# Altium footprint library tinyCurrent_Version1.PcbLib: 14 footprints
Each footprint in its own frame and in the unit in brackets; x right, y up, seen from the top. Pads: shape width x height; smd on the part's side, far side on the other; paste and mask are expansions set on the pad; w line width, h text height; cw(c..) or ccw(c..) is an arc to the next point about the centre after c.
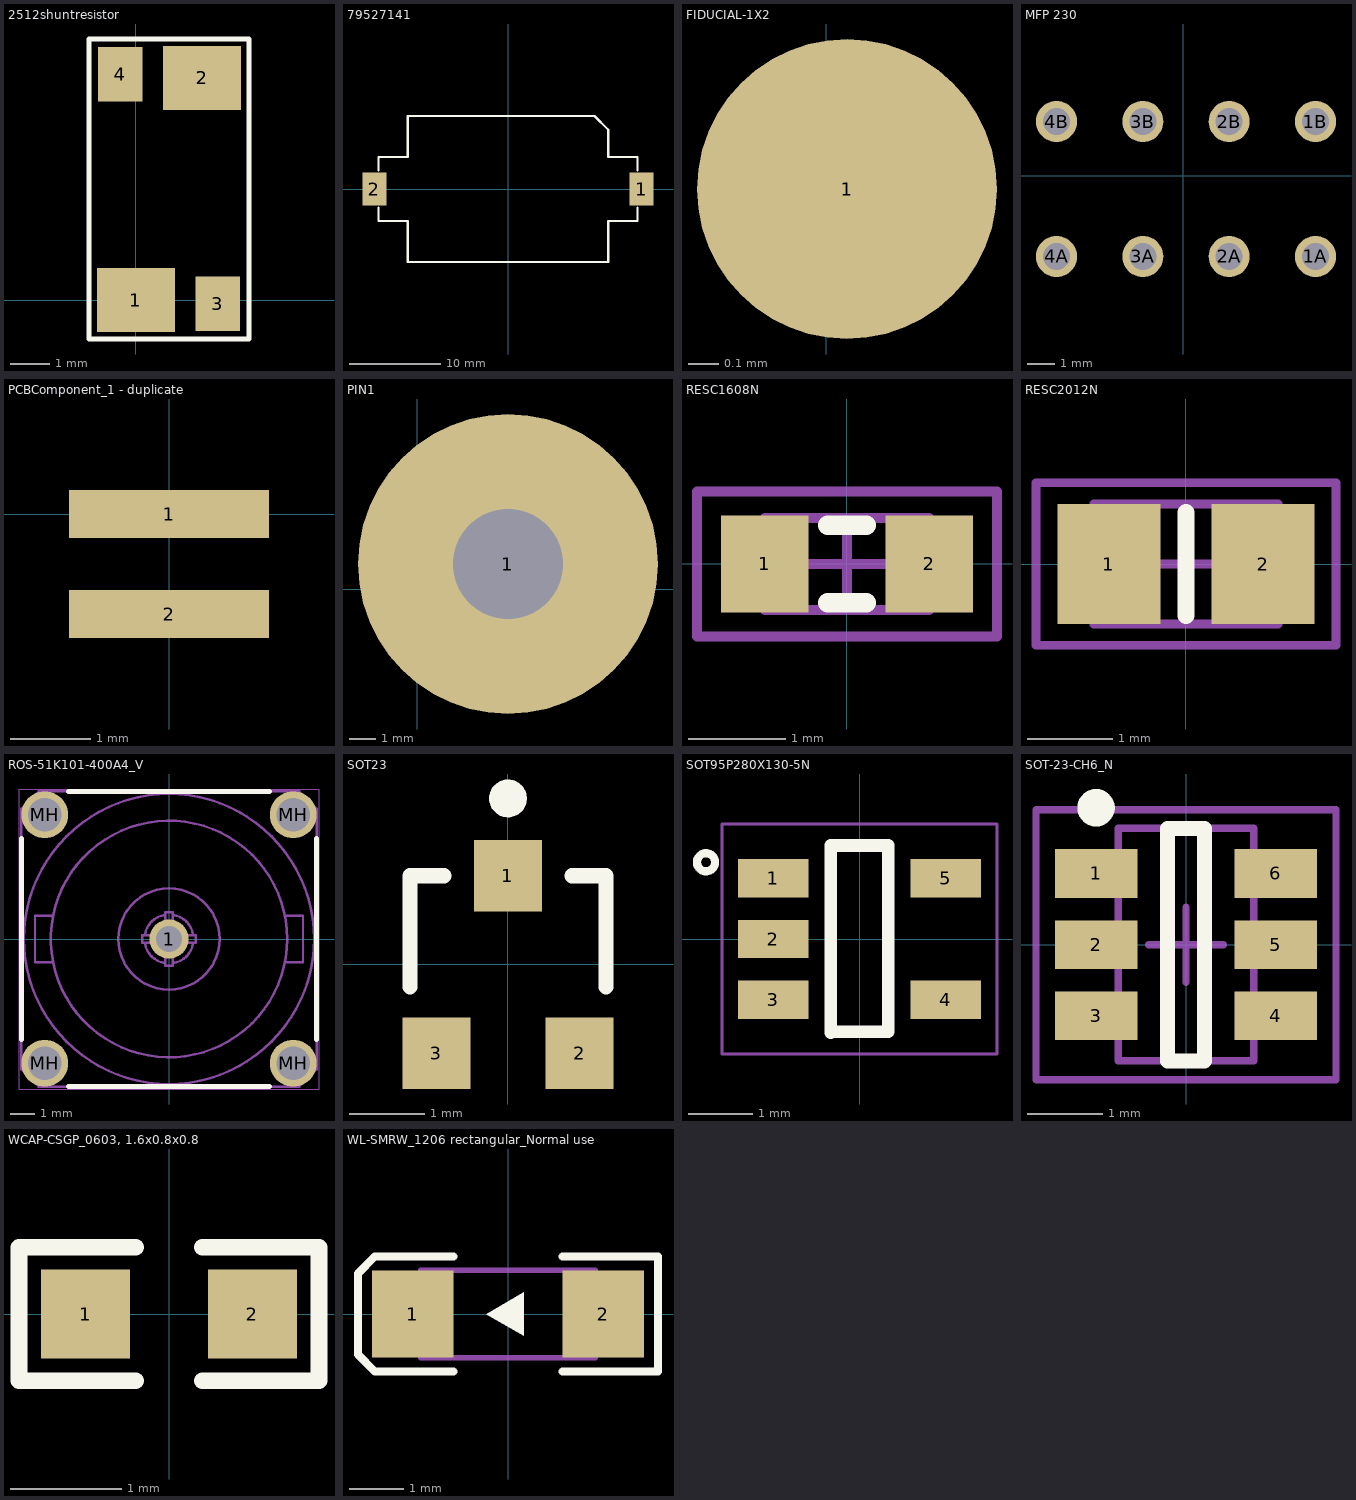
[diagram p0: the footprints below, top view; thin cyan lines are the x and y axes]

## 2512shuntresistor [mm]
pads (4):
  rect 2x1.65 smd mask+0.051: 1(0,0) 2(1.7,5.7)
  rect 1.15x1.4 smd mask+0.051: 3(2.1,-0.1) 4(-0.4,5.8)
Top Overlay:
  lines w0.127: -1.2,-1 2.9,-1 2.9,6.7 -1.2,6.7 -1.2,-1

## 79527141 [mm]
pads (2):
  rect 2.6x3.6 smd: 1(14.65,0) 2(-14.65,0)
Top Overlay:
  lines w0.254: -14.2,-2.05 -14.2,-3.5 -11,-3.5 -11,-8 11,-8 11,-3.5 14.2,-3.5 14.2,-2.05 ; -14.2,2.05 -14.2,3.5 -11,3.5 -11,8 9.5,8 11,6.5 11,3.5 14.2,3.5 14.2,2.05
3D body "79527141.stp": height 5.66, standoff 0.01, extent -15.95,-8 15.95,8

## FIDUCIAL-1X2 [mm]
pads (1):
  rrect100% 1x1 smd paste-0.5: 1(0.07,1.7)

## MFP 230 [mm]
pads (8):
  round 1.524 hole 1: 1A(4.9,-3) 1B(4.9,2) 2A(1.7,-3) 2B(1.7,2) 3A(-1.5,-3) 3B(-1.5,2) 4A(-4.7,-3) 4B(-4.7,2)

## PCBComponent_1 - duplicate [mm]
pads (2):
  rect 2.5x0.6 smd: 1(0,0) 2(0,-1.25)

## PIN1 [mm]
pads (1):
  round 11.5 / inner round 10 / far side round 11 hole 4.2: 1(3.47,0.97)
3D body: height 0, standoff 0, extent -1.701,-5.801 9.901,5.801
3D body: height 0, standoff 0, extent -1.701,-5.801 9.901,5.801

## RESC1608N [mm]
pads (2):
  rect 0.9x1 smd: 1(-0.85,0) 2(0.85,0)
Top Overlay:
  lines w0.2: -0.2,-0.4 0.2,-0.4 ; -0.2,0.4 0.2,0.4
Mechanical 13:
  lines w0.1: -0.85,-0.475 -0.85,0.475 0.85,0.475 0.85,-0.475 -0.85,-0.475
Mechanical 15:
  lines w0.1: -0.475,0 0.475,0 ; 0,-0.475 0,0.475 ; -1.55,-0.75 -1.55,0.75 1.55,0.75 1.55,-0.75 -1.55,-0.75
3D body: height 0.6, standoff 0, extent -0.85,-0.475 0.85,0.475

## RESC2012N [mm]
pads (2):
  rect 1.2x1.4 smd: 1(-0.9,0) 2(0.9,0)
Top Overlay:
  lines w0.2: 0,-0.6 0,0.6
Mechanical 13:
  lines w0.1: -1.075,-0.7 -1.075,0.7 1.075,0.7 1.075,-0.7 -1.075,-0.7
Mechanical 15:
  lines w0.1: -0.5,0 0.5,0 ; 0,-0.5 0,0.5 ; -1.75,-0.95 -1.75,0.95 1.75,0.95 1.75,-0.95 -1.75,-0.95
3D body: height 0.65, standoff 0, extent -1.075,-0.7 1.075,0.7

## ROS-51K101-400A4_V [mm]
pads (5):
  round 1.6 hole 1.05: 1(0,0)
  round 1.9 hole 1.35: MH(-5.05,-5.05) MH(-5.05,5.05) MH(5.05,-5.05) MH(5.05,5.05)
Top Overlay:
  lines w0.2: -6,-4.09 -6,4.09 ; -4.09,-6 4.09,-6 ; -4.09,6 4.09,6 ; 6,-4.09 6,4.09
Mechanical 13:
  circle w0.1: c5.05,-5.05 r0.3
  circle w0.1: c-5.05,-5.05 r0.3
  circle w0.1: c-5.05,5.05 r0.3
  circle w0.1: c5.05,5.05 r0.3
  circle w0.1: c0,0 r0.45
  circle w0.1: c-5.05,5.05 r0.6
  circle w0.1: c-5.05,-5.05 r0.6
  circle w0.1: c5.05,-5.05 r0.6
  circle w0.1: c5.05,5.05 r0.6
  circle w0.1: c0,0 r4.81
  circle w0.1: c0,0 r2.06
  circle w0.1: c0,0 r5.9
  lines w0.1: -4.699,-0.95 -5.45,-0.95 -5.45,0.952 -4.699,0.952 ; -0.989,-0.148 ccw(c0,0) -0.148,-0.989 ; -0.989,0.148 cw(c0,0) -0.148,0.989 ; -0.685,-0.147 ccw(c0,0) -0.15,-0.684 ; -0.684,0.15 cw(c0,0) -0.147,0.685 ; -0.684,-0.15 -1.09,-0.15 -1.09,0.15 -0.684,0.15 ; -0.15,-0.684 -0.15,-1.09 0.15,-1.09 0.15,-0.684 ; -0.15,0.684 -0.15,1.09 0.15,1.09 0.15,0.684 ; 0.147,-0.685 ccw(c0,0) 0.684,-0.15 ; 0.148,-0.989 ccw(c0,0) 0.989,-0.148 ; 0.148,0.989 cw(c0,0) 0.989,0.148 ; 0.15,0.684 cw(c0,0) 0.685,0.147 ; 0.684,-0.15 1.09,-0.15 1.09,0.15 0.684,0.15 ; 4.699,-0.95 5.45,-0.95 5.45,0.952 4.699,0.952 ; -6,-5.294 -5.294,-6 5.294,-6 6,-5.294 6,5.294 5.294,6 -5.294,6 -6,5.294 -6,-5.294
Mechanical 15:
  lines w0.05: -6.1,-6.1 6.1,-6.1 6.1,6.1 -6.1,6.1 -6.1,-6.1
  lines w0.1: -0.5,0 0.5,0 ; 0,-0.5 0,0.5
3D body "51k101-400a4.stp": height 15, standoff -3.97, extent -6,-6 6,6

## SOT23 [mm]
pads (3):
  rect 0.9x0.95 smd: 1(0,1.175) 2(0.95,-1.175) 3(-0.95,-1.175)
Top Overlay:
  circle w0.25: c0,2.2 r0.125
  lines w0.2: -1.3,-0.3 -1.3,1.175 -0.85,1.175 ; 0.85,1.175 1.3,1.175 1.3,-0.3

## SOT95P280X130-5N [mm]
pads (5):
  rect 1.1x0.6 smd paste-25.4 mask-25.4: 1(-1.35,0.95) 2(-1.35,0) 3(-1.35,-0.95) 4(1.35,-0.95) 5(1.35,0.95)
Top Overlay:
  circle w0.127: c-2.4,1.2 r0.141
  lines w0.2: -0.45,-1.46 -0.45,1.46 0.45,1.46 ; -0.45,-1.45 0.45,-1.45 0.45,1.45
Top Paste:
  region: -1.9,0.65 -0.8,0.65 -0.8,1.25 -1.9,1.25
  region: -1.9,-0.3 -0.8,-0.3 -0.8,0.3 -1.9,0.3
  region: -1.9,-1.25 -0.8,-1.25 -0.8,-0.65 -1.9,-0.65
  region: 1.9,-0.65 0.8,-0.65 0.8,-1.25 1.9,-1.25
  region: 1.9,1.25 0.8,1.25 0.8,0.65 1.9,0.65
Top Solder:
  region: -2,0.55 -0.7,0.55 -0.7,1.35 -2,1.35
  region: -2,-0.4 -0.7,-0.4 -0.7,0.4 -2,0.4
  region: -2,-1.35 -0.7,-1.35 -0.7,-0.55 -2,-0.55
  region: 2,-0.55 0.7,-0.55 0.7,-1.35 2,-1.35
  region: 2,1.35 0.7,1.35 0.7,0.55 2,0.55
Mechanical 1:
  lines w0.05: -2.15,-1.8 2.15,-1.8 2.15,1.8 -2.15,1.8 -2.15,-1.8
3D body "SOT23_5.stp": height 0.92, standoff 0.01, extent -1.524,-1.5 1.681,1.5

## SOT-23-CH6_N [mm]
pads (6):
  rect 1.1x0.65 smd: 1(-1.2,0.95) 2(-1.2,0) 3(-1.2,-0.95) 4(1.2,-0.95) 5(1.2,0) 6(1.2,0.95)
Top Overlay:
  circle w0.25: c-1.2,1.825 r0.125
  lines w0.2: -0.25,-1.55 0.25,-1.55 0.25,1.55 -0.25,1.55 -0.25,-1.55
Mechanical 13:
  lines w0.1: -0.9,-1.55 -0.9,1.55 0.9,1.55 0.9,-1.55 -0.9,-1.55
Mechanical 15:
  lines w0.1: -0.5,0 0.5,0 ; 0,-0.5 0,0.5 ; -2,-1.8 -2,1.8 2,1.8 2,-1.8 -2,-1.8
3D body: height 1.45, standoff 0, extent -0.9,-1.55 0.9,1.55

## WCAP-CSGP_0603, 1.6x0.8x0.8 [mm]
pads (2):
  rect 0.8x0.8 smd: 1(-0.75,0) 2(0.75,0)
Top Overlay:
  lines w0.15: -0.3,-0.6 -1.35,-0.6 -1.35,0.6 -0.3,0.6 ; 0.3,-0.6 1.35,-0.6 1.35,0.6 0.3,0.6
3D body "1.6x0.8x0.8x0.4.stp": height 0.8, standoff 0, extent -0.8,-0.4 0.8,0.4

## WL-SMRW_1206 rectangular_Normal use [mm]
pads (2):
  rect 1.5x1.6 smd: 1(-1.75,0) 2(1.75,0)
Top Overlay:
  region: -0.4,0 0.293,0.4 0.293,-0.4
  lines w0.15: -1,-1.054 -2.446,-1.054 -2.754,-0.746 -2.754,0.746 -2.446,1.054 -1,1.054 ; 1,-1.054 2.754,-1.054 2.754,1.054 1,1.054
Mechanical 13:
  lines w0.1: -1.6,-0.8 1.6,-0.8 1.6,0.8 -1.6,0.8 -1.6,-0.8
3D body "WL-SMRW_1206_rectangular.stp": height 1.2, standoff 0, extent -1.6,-0.8 1.6,0.8